# EAGLE library part 1-INCH (library FansElectronics-7Segmen)
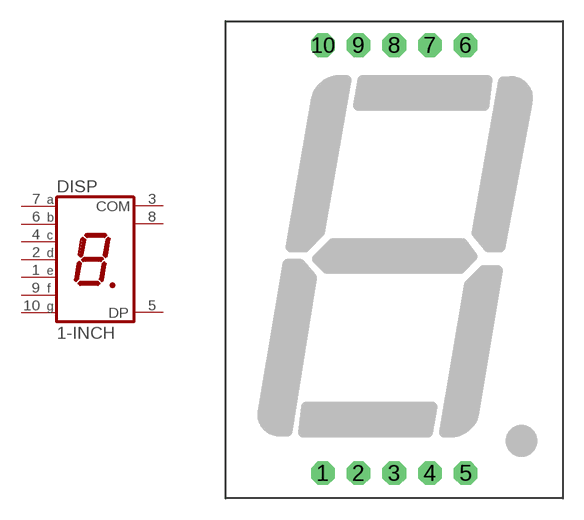
[diagram p4: symbol with the pads of 1.0"; footprint 1.0"]

Designator prefix DISP

## 1-INCH  [1.0"]
1  E  pas
2  D  pas
3  COM  pas
4  C  pas
5  DP  pas
6  B  pas
7  A  pas
8  COM  pas
9  F  pas
10  G  pas

## Footprint 1.0" (pad centres in mm)
drill 0.9 pad 1.676 octagon: 1 -5.08,-15.2; 2 -2.54,-15.2; 3 0,-15.2; 4 2.54,-15.2; 5 5.08,-15.2; 6 5.08,15.28; 7 2.54,15.28; 8 0,15.28; 9 -2.54,15.28; 10 -5.08,15.28